# EAGLE library part 64800711622 (library WR-WTB)
WR-WTB 1.50 mm Male Vertical Shrouded Header Material Properties Insulator Material Nylon 9T Insulator Flammability Rating UL94 V-0 Insulator Color Beige Contact Material Copper Alloy Contact Plating Tin Contact Type Stamped Certification UL Approval E323964 General Information Operating Temperature -25 °C up to +85 °C Working Voltage 50 V (AC) Withstanding Voltage 500 V (AC) Contact Resistance 20 mΩ RISO 100 MΩ Pitch 1.5 mm Gender Male Type Vertical Packaging Properties Packaging Bag Details see: www.we-online.com/en/components/products/WTB_1_50_MALE_VERTICAL_SHROUDED_HEADER_6480XX11622 Updated by Ella 2025-03-06 2025 (C) Würth Elektronik
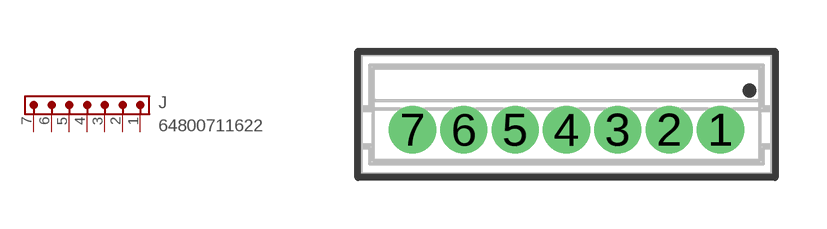
[diagram p36: symbol with the pads of 64800711622; footprint 64800711622]

Designator prefix J

## 64800711622 (CONTACT-RESISTANCE: 20mOhm; DATASHEET: https://www.we-online.com/redexpert/spec/64800711622?ae; GENDER: Male; IR: A; L: 12mm; MOUNT: THT; PACKAGING: Bag; PART-NUMBER: 64800711622; PCB-CABLE-PANEL: PCB; PINS: 7; PITCH: 1.5mm; TYPE: Vertical; VALUE: 64800711622; WORKING-VOLTAGE: 50V(AC))  [64800711622]
1  1  pas
2  2  pas
3  3  pas
4  4  pas
5  5  pas
6  6  pas
7  7  pas

## Footprint 64800711622 (pad centres in mm)
WR-WTB 1.50 mm Male Vertical Shrouded Header, 7 Pins
drill 0.87: 1 4.5,-0.45; 2 3,-0.45; 3 1.5,-0.45; 4 0,-0.45; 5 -1.5,-0.45; 6 -3,-0.45; 7 -4.5,-0.45